# Altium schematic symbol library DS1114-BN0.SchLib: 1 symbol
Pins are listed as number, name and electrical type; pins without a type are passive.

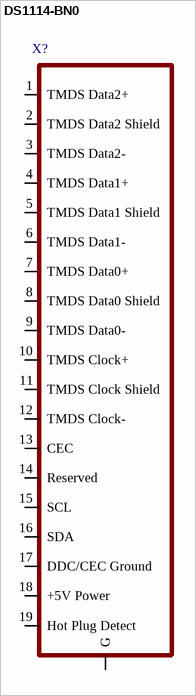
[diagram p0: symbol DS1114-BN0]

## DS1114-BN0
designator X?
pins: 1 TMDS Data2+, 2 TMDS Data2 Shield, 3 TMDS Data2-, 4 TMDS Data1+, 5 TMDS Data1 Shield, 6 TMDS Data1-, 7 TMDS Data0+, 8 TMDS Data0 Shield, 9 TMDS Data0-, 10 TMDS Clock+, 11 TMDS Clock Shield, 12 TMDS Clock-, 13 CEC, 14 Reserved, 15 SCL, 16 SDA, 17 DDC/CEC Ground, 18 +5V Power, 19 Hot Plug Detect, G